# Altium schematic symbol library BC856CMTF.Schlib: 1 symbol
Pins are listed as number, name and electrical type; pins without a type are passive.

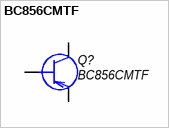
[diagram p0: symbol BC856CMTF]

## BC856CMTF
designator Q?
TRANS PNP 65V 0.1A SOT-23; Manufacturer: ON Semiconductor; MPN: BC856CMTF; Supplier 1: Digi-Key; Supplier 2: *; PackageReference: SOT-23-3; Value: BC856CMTF
footprint SOT23-3
pins: 1 B, 2 B, 3 B